# EAGLE library part IC_BUFF_SN74LVC2G17 (library dp_devices)
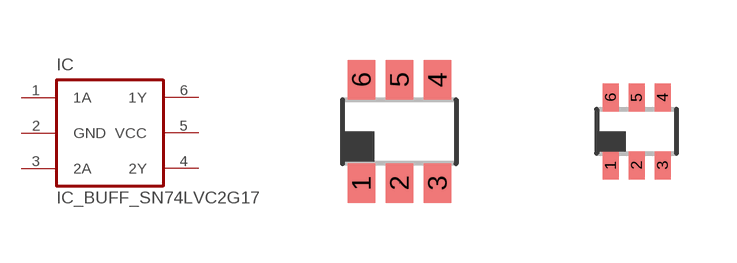
[diagram p26: symbol with the pads of DBV-R-PDSO-G6; footprints DBV-R-PDSO-G6, DCK_R_PDSO_G6]

Designator prefix IC

## IC_BUFF_SN74LVC2G17DBV  [DBV-R-PDSO-G6]
1  1A
2  GND
3  2A
4  2Y
5  VCC
6  1Y

## IC_BUFF_SN74LVC2G17DCK  [DCK_R_PDSO_G6]
Pads as for DBV-R-PDSO-G6

## Footprint DBV-R-PDSO-G6 (pad centres in mm)
smd 0.69 x 0.99: 1 -0.95,-1.29; 2 0,-1.29; 3 0.95,-1.29; 4 0.95,1.3; 5 0,1.3; 6 -0.95,1.3

## Footprint DCK_R_PDSO_G6 (pad centres in mm)
smd 0.4 x 0.7: 1 -0.65,-0.85; 2 0,-0.85; 3 0.65,-0.85; 4 0.65,0.85; 5 0,0.85; 6 -0.65,0.85